# Altium schematic symbol library Richs Schematic Components.SchLib: 220 symbols (part 2 of 2)
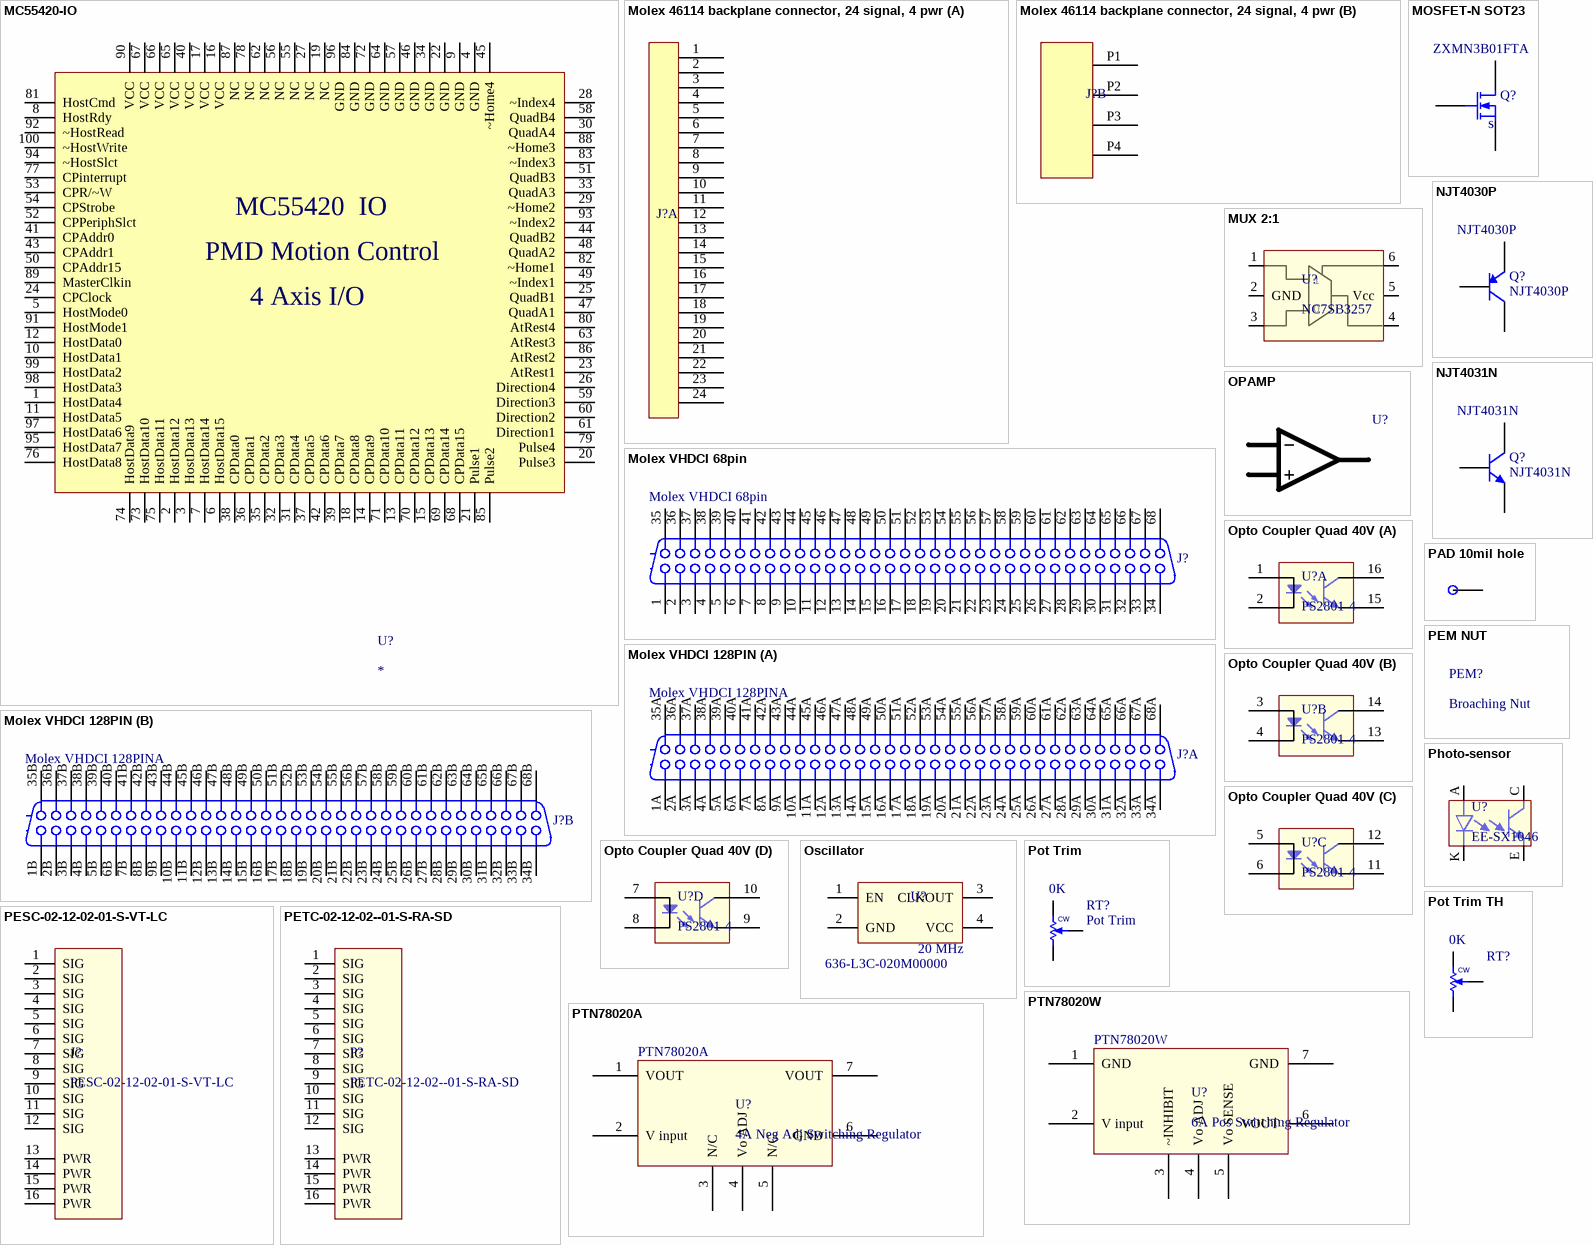
[diagram p13: symbols MC55420-IO to PTN78020W]

## PETC-02-12-02--01-S-RA-SD
designator P?
SAMTEC, SIGNAL(12)+PWR(4); Vendor Mult.: 1; Manufacturer: SAMTEC; Manuf p/n: PETC-02-12-02--01-S-RA-SD; Vendor: SAMTEC; Vendor p/n: PETC-02-12-02--01-S-RA-SD
footprint PETC-02-12-02-01-RA (Samtec Male Pins, PWR(4), Signal(12), Right Angle)
pins: 1 SIG, 2 SIG, 3 SIG, 4 SIG, 5 SIG, 6 SIG, 7 SIG, 8 SIG, 9 SIG, 10 SIG, 11 SIG, 12 SIG, 13 PWR, 14 PWR, 15 PWR, 16 PWR

## Photo-sensor
designator U?, comment EE-SX1046
Omron EE-SX1046; LCO p/n: 135-00001
footprint Photo-sensor (Omron EE-SX1046)
pins: A anode, C collector , E emitter, K cathode

## Pot Trim
designator RT?  value 0K
SMD Pot Bourns 3214W
footprint POT Bournes 3214W (SMD Trim Pot)
pins: CCW -, CW +, W
1 alternate drawing of the same symbol

## Pot Trim TH
designator RT?  value 0K  (hidden comment: Pot Trim TH)
TH Pot Bourns 3266W; Manuf p/n: 3266W-1-___LF; Vendor: DigiKey; Vendor p/n: 3266W-___LF-ND; Vendor Mult.: 1; Manufacturer: BOURNS; COST: 3.58
footprint POT, BOURNS 3266W
pins: 1 CCW, 2 W, 3 CW
1 alternate drawing of the same symbol

## PTN78020A
designator U?, comment 4A Neg Adj Switching Regulator  value PTN78020A
Neg Adj Switching Regulator
footprint TEXAS Inst Switching Regulator (Texas Instruments Integrated switching regulator)
pins: 1 VOUT, 2 V input, 3 N/C, 4 Vo ADJ, 5 N/C, 6 GND, 7 VOUT

## PTN78020W
designator U?, comment 6A Pos Switching Regulator  value PTN78020W
Pos Adj Switching Regulator
footprint TEXAS Inst Switching Regulator (Texas Instruments Integrated switching regulator)
pins: 1 GND, 2 V input, 3 ~INHIBIT, 4 Vo ADJ, 5 Vo SENSE, 6 VOUT, 7 GND

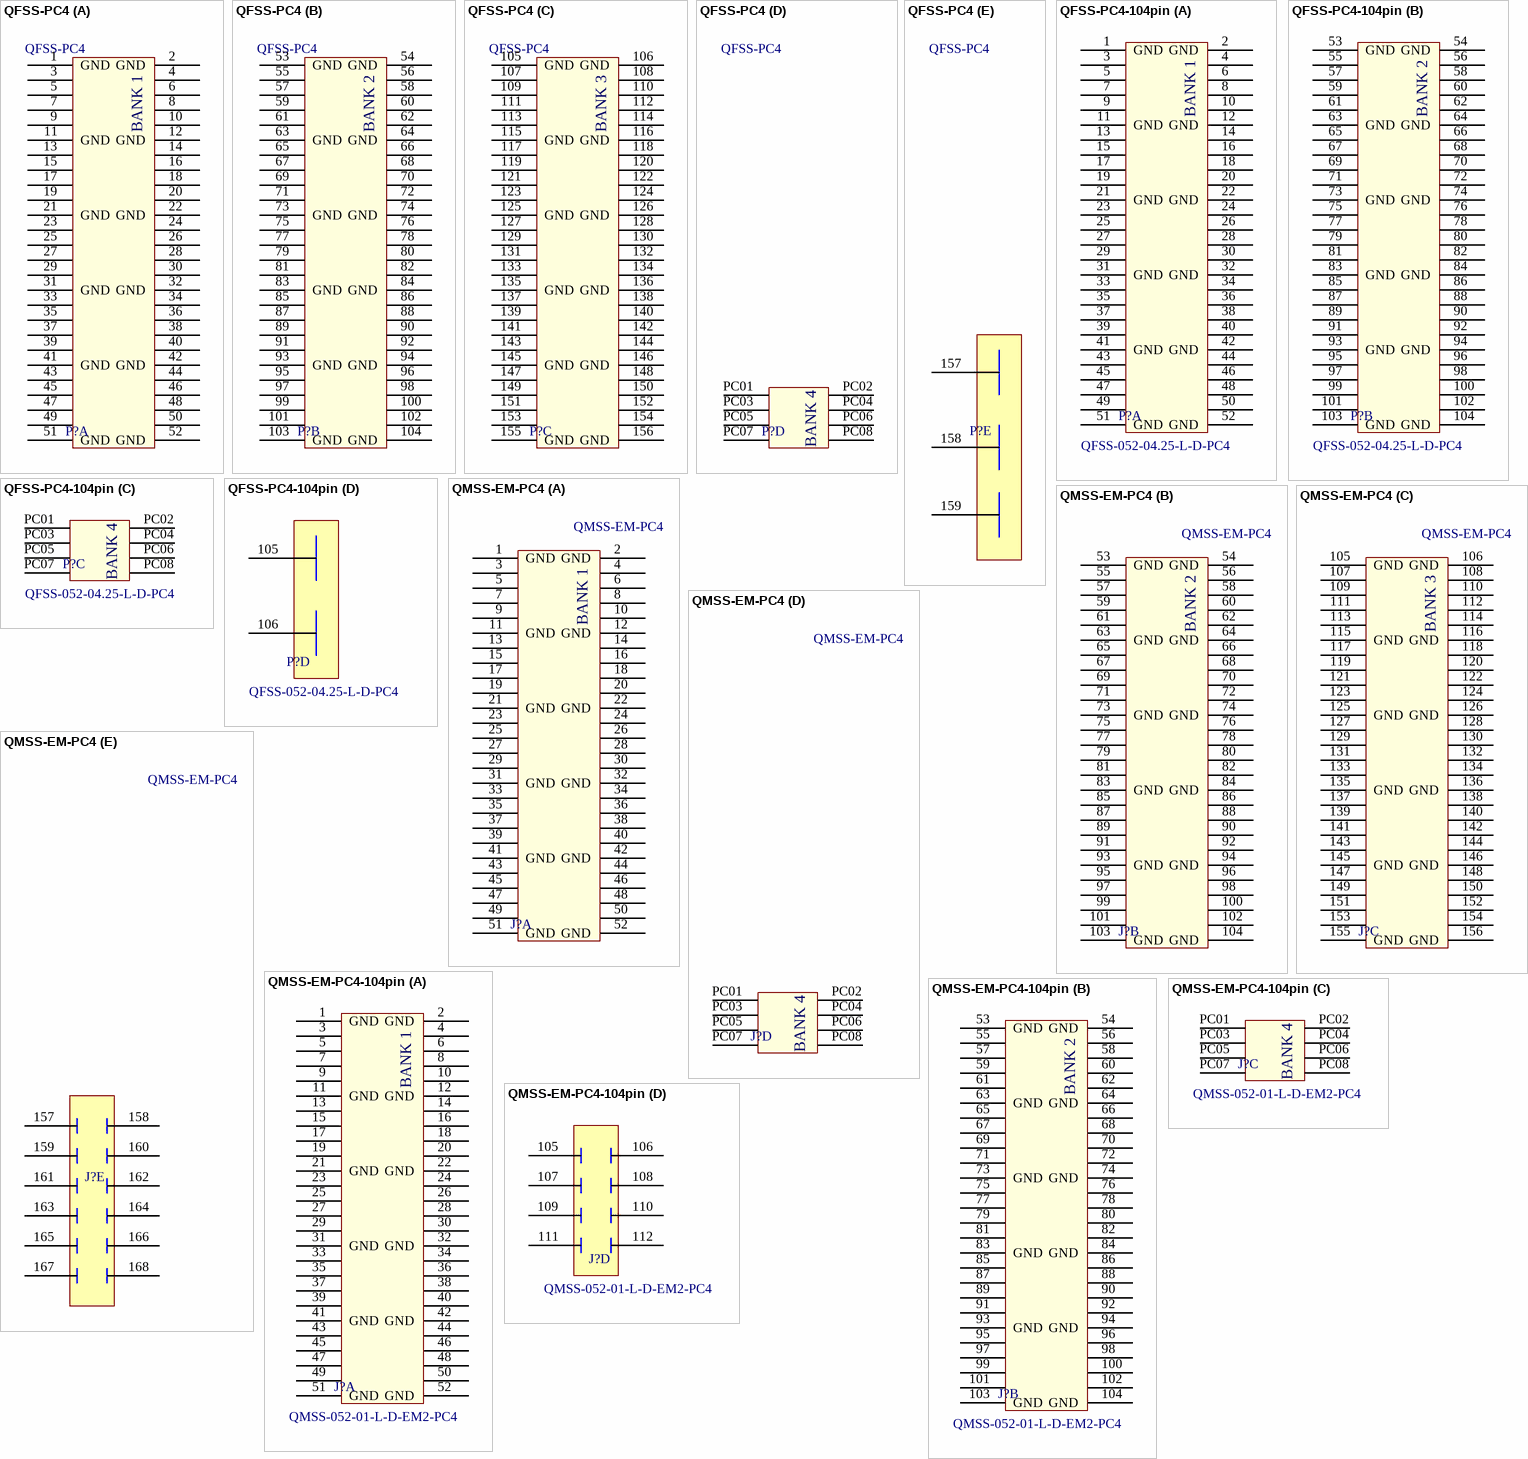
[diagram p7: symbols QFSS-PC4 to QMSS-EM-PC4-104pin]

## QFSS-PC4
designator P?
SAMTEC QFSS W/PWR PINS; Manuf p/n: QFSS-078-04.25-L-D-PC4; Vendor Mult.: 1; Manufacturer: SAMTEC; Vendor: SAMTEC; Vendor p/n: QFSS-078-04.25-L-D-PC4; COST: 17.42; VALUE: QFSS-PC4
footprint QFS SMD PWR PINS (78 pos (156 pin) + 8 pwr pins)
part A pins: 1 GND, 2 GND, 3, 4, 5, 6, 7, 8, 9, 10, 11 GND, 12 GND, 13, 14, 15, 16, 17, 18, 19, 20, 21 GND, 22 GND, 23, 24, 25, 26, 27, 28, 29, 30, 31 GND, 32 GND, 33, 34, 35, 36, 37, 38, 39, 40, 41 GND, 42 GND, 43, 44, 45, 46, 47, 48, 49, 50, 51 GND, 52 GND
part B pins: 53 GND, 54 GND, 55, 56, 57, 58, 59, 60, 61, 62, 63 GND, 64 GND, 65, 66, 67, 68, 69, 70, 71, 72, 73 GND, 74 GND, 75, 76, 77, 78, 79, 80, 81, 82, 83 GND, 84 GND, 85, 86, 87, 88, 89, 90, 91, 92, 93 GND, 94 GND, 95, 96, 97, 98, 99, 100, 101, 102, 103 GND, 104 GND
part C pins: 105 GND, 106 GND, 107, 108, 109, 110, 111, 112, 113, 114, 115 GND, 116 GND, 117, 118, 119, 120, 121, 122, 123, 124, 125 GND, 126 GND, 127, 128, 129, 130, 131, 132, 133, 134, 135 GND, 136 GND, 137, 138, 139, 140, 141, 142, 143, 144, 145 GND, 146 GND, 147, 148, 149, 150, 151, 152, 153, 154, 155 GND, 156 GND
part D pins: PC01, PC02, PC03, PC04, PC05, PC06, PC07, PC08
part E pins: 157 GND, 158 GND, 159 GND
part A text: BANK 1
part B text: BANK 2
part C text: BANK 3
part D text: BANK 4

## QFSS-PC4-104pin
designator P?  value QFSS-052-04.25-L-D-PC4  (hidden comment: QFSS-PC4-104pin)
SAMTEC QFSS W/PWR PINS; Vendor Mult.: 1; Manufacturer: SAMTEC; Manuf p/n: QFSS-052-04.25-L-D-PC4; Vendor: SAMTEC; Vendor p/n: QFSS-052-04.25-L-D-PC4; COST: 17.42
footprint QFS SMD PWR PINS - 104 pins (52 pos (104pin) + 8 pwr pins)
part A pins: 1 GND, 2 GND, 3, 4, 5, 6, 7, 8, 9, 10, 11 GND, 12 GND, 13, 14, 15, 16, 17, 18, 19, 20, 21 GND, 22 GND, 23, 24, 25, 26, 27, 28, 29, 30, 31 GND, 32 GND, 33, 34, 35, 36, 37, 38, 39, 40, 41 GND, 42 GND, 43, 44, 45, 46, 47, 48, 49, 50, 51 GND, 52 GND
part B pins: 53 GND, 54 GND, 55, 56, 57, 58, 59, 60, 61, 62, 63 GND, 64 GND, 65, 66, 67, 68, 69, 70, 71, 72, 73 GND, 74 GND, 75, 76, 77, 78, 79, 80, 81, 82, 83 GND, 84 GND, 85, 86, 87, 88, 89, 90, 91, 92, 93 GND, 94 GND, 95, 96, 97, 98, 99, 100, 101, 102, 103 GND, 104 GND
part C pins: PC01, PC02, PC03, PC04, PC05, PC06, PC07, PC08
part D pins: 105 GND, 106 GND
part A text: BANK 1
part B text: BANK 2
part C text: BANK 4

## QMSS-EM-PC4
designator J?
SAMTEC QMSS EDGE W/PWR PINS; Manuf p/n: QMSS-078-01-L-D-EM2-PC4; Vendor: SAMETC; Vendor Mult.: 1; LCO p/n: 125-00023; Manufacturer: SAMTEC; Vendor p/n: QMSS-078-01-L-D-EM2-PC4; COST: 20.00; VALUE: QMSS-EM-PC4
footprint QMS EDGE PWR PINS (78 pos (156 pin) + 8 pwr pins)
part A pins: 1 GND, 2 GND, 3, 4, 5, 6, 7, 8, 9, 10, 11 GND, 12 GND, 13, 14, 15, 16, 17, 18, 19, 20, 21 GND, 22 GND, 23, 24, 25, 26, 27, 28, 29, 30, 31 GND, 32 GND, 33, 34, 35, 36, 37, 38, 39, 40, 41 GND, 42 GND, 43, 44, 45, 46, 47, 48, 49, 50, 51 GND, 52 GND
part B pins: 53 GND, 54 GND, 55, 56, 57, 58, 59, 60, 61, 62, 63 GND, 64 GND, 65, 66, 67, 68, 69, 70, 71, 72, 73 GND, 74 GND, 75, 76, 77, 78, 79, 80, 81, 82, 83 GND, 84 GND, 85, 86, 87, 88, 89, 90, 91, 92, 93 GND, 94 GND, 95, 96, 97, 98, 99, 100, 101, 102, 103 GND, 104 GND
part C pins: 105 GND, 106 GND, 107, 108, 109, 110, 111, 112, 113, 114, 115 GND, 116 GND, 117, 118, 119, 120, 121, 122, 123, 124, 125 GND, 126 GND, 127, 128, 129, 130, 131, 132, 133, 134, 135 GND, 136 GND, 137, 138, 139, 140, 141, 142, 143, 144, 145 GND, 146 GND, 147, 148, 149, 150, 151, 152, 153, 154, 155 GND, 156 GND
part D pins: PC01, PC02, PC03, PC04, PC05, PC06, PC07, PC08
part E pins: 157 GND, 158 GND, 159 GND, 160 GND, 161 GND, 162 GND, 163 GND, 164 GND, 165 GND, 166 GND, 167 GND, 168 GND
part A text: BANK 1
part B text: BANK 2
part C text: BANK 3
part D text: BANK 4

## QMSS-EM-PC4-104pin
designator J?  value QMSS-052-01-L-D-EM2-PC4  (hidden comment: QMSS-EM-PC4-104pin)
SAMTEC QMSS EDGE W/PWR PINS; Vendor: SAMETC; Vendor Mult.: 1; LCO p/n: 125-00023; Manufacturer: SAMTEC; Manuf p/n: QMSS-052-01-L-D-EM2-PC4; Vendor p/n: QMSS-052-01-L-D-EM2-PC4; COST: 20.00
footprint QMS EDGE PWR PINS - 104 pin (52 pos (104 pin) + 8 pwr pins)
part A pins: 1 GND, 2 GND, 3, 4, 5, 6, 7, 8, 9, 10, 11 GND, 12 GND, 13, 14, 15, 16, 17, 18, 19, 20, 21 GND, 22 GND, 23, 24, 25, 26, 27, 28, 29, 30, 31 GND, 32 GND, 33, 34, 35, 36, 37, 38, 39, 40, 41 GND, 42 GND, 43, 44, 45, 46, 47, 48, 49, 50, 51 GND, 52 GND
part B pins: 53 GND, 54 GND, 55, 56, 57, 58, 59, 60, 61, 62, 63 GND, 64 GND, 65, 66, 67, 68, 69, 70, 71, 72, 73 GND, 74 GND, 75, 76, 77, 78, 79, 80, 81, 82, 83 GND, 84 GND, 85, 86, 87, 88, 89, 90, 91, 92, 93 GND, 94 GND, 95, 96, 97, 98, 99, 100, 101, 102, 103 GND, 104 GND
part C pins: PC01, PC02, PC03, PC04, PC05, PC06, PC07, PC08
part D pins: 105 GND, 106 GND, 107 GND, 108 GND, 109 GND, 110 GND, 111 GND, 112 GND
part A text: BANK 1
part B text: BANK 2
part C text: BANK 4

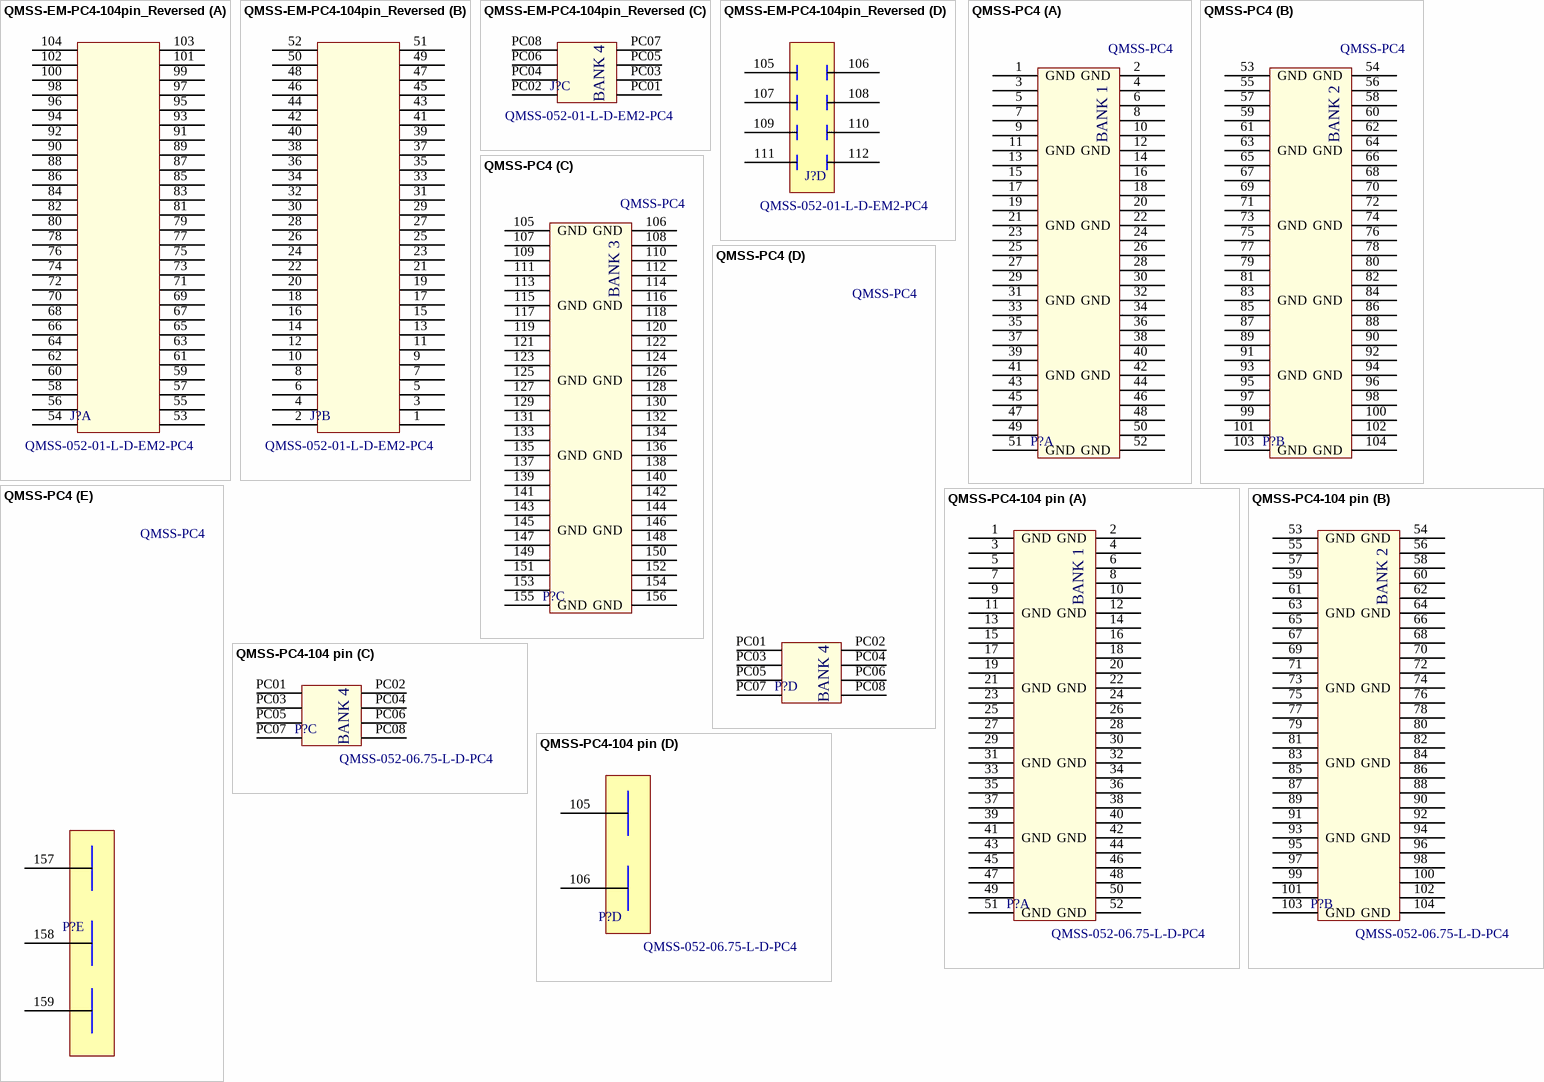
[diagram p8: symbols QMSS-EM-PC4-104pin_Reversed to QMSS-PC4-104 pin]

## QMSS-EM-PC4-104pin_Reversed
designator J?  value QMSS-052-01-L-D-EM2-PC4  (hidden comment: QMSS-EM-PC4-104pin_Reversed)
SAMTEC QMSS EDGE W/PWR PINS; Vendor: SAMETC; Vendor Mult.: 1; LCO p/n: 125-00023; Manufacturer: SAMTEC; Manuf p/n: QMSS-052-01-L-D-EM2-PC4; Vendor p/n: QMSS-052-01-L-D-EM2-PC4; COST: 20.00
footprint QMS EDGE PWR PINS - 104 pin (52 pos (104 pin) + 8 pwr pins)
part A pins: 53, 54, 55, 56 55, 57 56, 58 56, 59 57, 60 57, 61 58, 62 58, 63 59, 64 59, 65 60, 66 60, 67 61, 68 61, 69 62, 70 62, 71 63, 72 63, 73 64, 74 64, 75 65, 76 65, 77 66, 78 66, 79 67, 80 67, 81 68, 82 68, 83 69, 84 69, 85 70, 86 70, 87 71, 88 71, 89 72, 90 72, 91 73, 92 73, 93 74, 94 74, 95 75, 96 75, 97 76, 98 76, 99 77, 100 77, 101 78, 102 78, 103 79, 104 79
part B pins: 1, 2, 3, 4, 5 4, 6 5, 7 5, 8 6, 9 6, 10 7, 11 7, 12 8, 13 8, 14 9, 15 9, 16 10, 17 10, 18 11, 19 11, 20 12, 21 12, 22 13, 23 13, 24 14, 25 14, 26 15, 27 15, 28 16, 29 16, 30 17, 31 17, 32 18, 33 18, 34 19, 35 19, 36 20, 37 20, 38 21, 39 21, 40 22, 41 22, 42 23, 43 23, 44 24, 45 24, 46 25, 47 25, 48 26, 49 26, 50 27, 51 27, 52 28
part C pins: PC01, PC02, PC03, PC04, PC05, PC06, PC07, PC08
part D pins: 105 GND, 106 GND, 107 GND, 108 GND, 109 GND, 110 GND, 111 GND, 112 GND
part C text: BANK 4

## QMSS-PC4
designator P?
SAMTEC QMSS W/PWR PINS; Manuf p/n: QMSS-078-06.75-L-D-PC4; Vendor Mult.: 1; LCO p/n: 125-00032; Manufacturer: SAMTEC; Vendor: SAMTEC; Vendor p/n: QMSS-078-06.75-L-D-PC4; COST: 18.33; VALUE: QMSS-PC4
footprint QMS SMD PWR PINS (78 pos (156 pin) + 8 pwr pins)
part A pins: 1 GND, 2 GND, 3, 4, 5, 6, 7, 8, 9, 10, 11 GND, 12 GND, 13, 14, 15, 16, 17, 18, 19, 20, 21 GND, 22 GND, 23, 24, 25, 26, 27, 28, 29, 30, 31 GND, 32 GND, 33, 34, 35, 36, 37, 38, 39, 40, 41 GND, 42 GND, 43, 44, 45, 46, 47, 48, 49, 50, 51 GND, 52 GND
part B pins: 53 GND, 54 GND, 55, 56, 57, 58, 59, 60, 61, 62, 63 GND, 64 GND, 65, 66, 67, 68, 69, 70, 71, 72, 73 GND, 74 GND, 75, 76, 77, 78, 79, 80, 81, 82, 83 GND, 84 GND, 85, 86, 87, 88, 89, 90, 91, 92, 93 GND, 94 GND, 95, 96, 97, 98, 99, 100, 101, 102, 103 GND, 104 GND
part C pins: 105 GND, 106 GND, 107, 108, 109, 110, 111, 112, 113, 114, 115 GND, 116 GND, 117, 118, 119, 120, 121, 122, 123, 124, 125 GND, 126 GND, 127, 128, 129, 130, 131, 132, 133, 134, 135 GND, 136 GND, 137, 138, 139, 140, 141, 142, 143, 144, 145 GND, 146 GND, 147, 148, 149, 150, 151, 152, 153, 154, 155 GND, 156 GND
part D pins: PC01, PC02, PC03, PC04, PC05, PC06, PC07, PC08
part E pins: 157 GND, 158 GND, 159 GND
part A text: BANK 1
part B text: BANK 2
part C text: BANK 3
part D text: BANK 4

## QMSS-PC4-104 pin
designator P?, comment QMSS-052-06.75-L-D-PC4
SAMTEC QMSS W/PWR PINS; Vendor Mult.: 1; LCO p/n: xxxxxxx; Manufacturer: SAMTEC; Manuf p/n: QMSS-052-06.75-L-D-PC4; Vendor: SAMTEC; Vendor p/n: QMSS-052-06.75-L-D-PC4; COST: 18.33; VALUE: QMSS-052-06.75-L-D-PC4
footprint QMS SMD PWR PINS - 104PIN (52pos (104 pin) + 8 pwr pins)
part A pins: 1 GND, 2 GND, 3, 4, 5, 6, 7, 8, 9, 10, 11 GND, 12 GND, 13, 14, 15, 16, 17, 18, 19, 20, 21 GND, 22 GND, 23, 24, 25, 26, 27, 28, 29, 30, 31 GND, 32 GND, 33, 34, 35, 36, 37, 38, 39, 40, 41 GND, 42 GND, 43, 44, 45, 46, 47, 48, 49, 50, 51 GND, 52 GND
part B pins: 53 GND, 54 GND, 55, 56, 57, 58, 59, 60, 61, 62, 63 GND, 64 GND, 65, 66, 67, 68, 69, 70, 71, 72, 73 GND, 74 GND, 75, 76, 77, 78, 79, 80, 81, 82, 83 GND, 84 GND, 85, 86, 87, 88, 89, 90, 91, 92, 93 GND, 94 GND, 95, 96, 97, 98, 99, 100, 101, 102, 103 GND, 104 GND
part C pins: PC01, PC02, PC03, PC04, PC05, PC06, PC07, PC08
part D pins: 105 GND, 106 GND
part A text: BANK 1
part B text: BANK 2
part C text: BANK 4

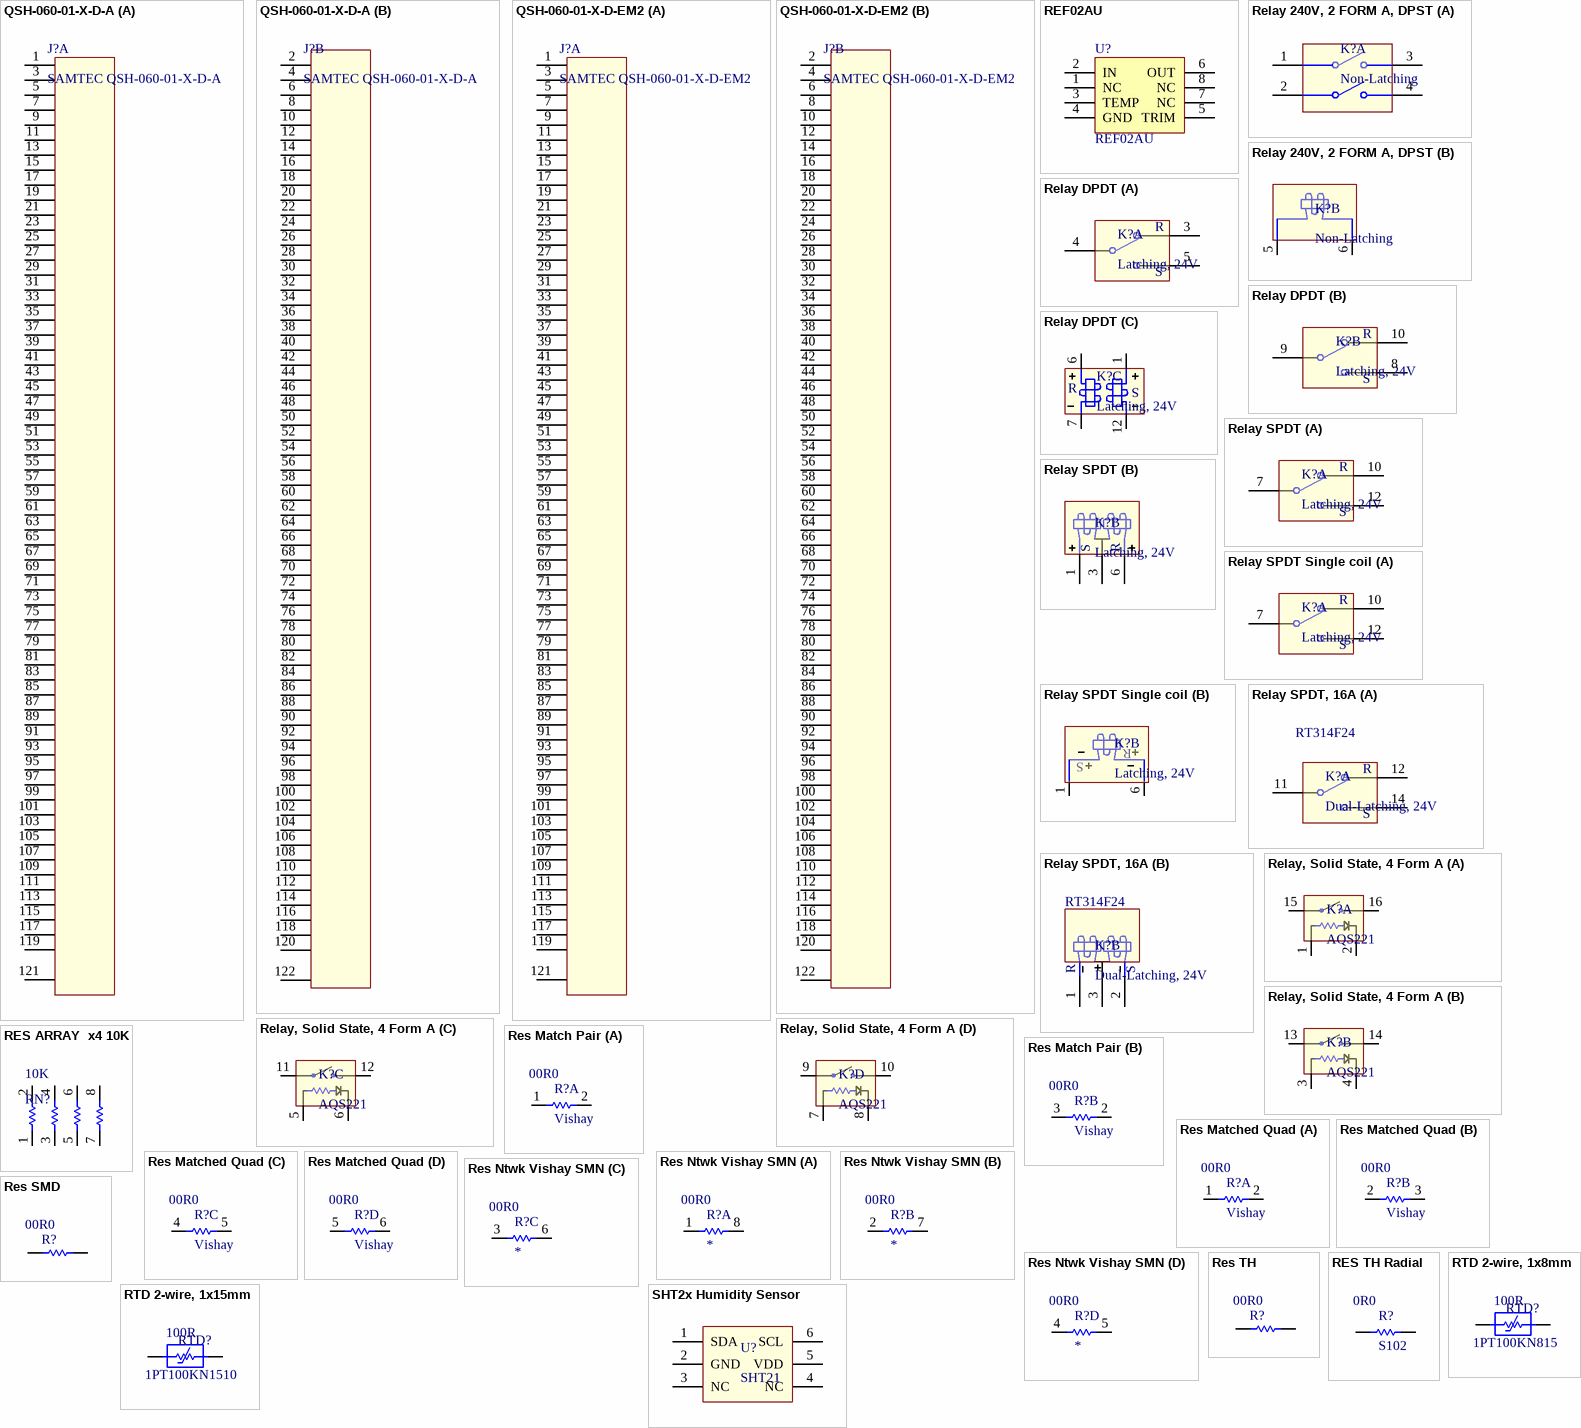
[diagram p9: symbols QSH-060-01-X-D-A to SHT2x Humidity Sensor]

## QSH-060-01-X-D-A
designator J?, comment SAMTEC QSH-060-01-X-D-A
LCO p/n: 125-00125; Manufacturer: SAMTEC; Manuf p/n: QSH-060-01-X-D-A; VALUE: QSH-060-01-X-D-A; Vendor: SAMTEC
footprint QSH-060-010-X-D-A (Samtec QSH (on SF Module))
part A pins: 1 GND, 3, 5, 7, 9, 11, 13, 15, 17, 19, 21, 23, 25, 27, 29, 31, 33, 35, 37, 39, 41, 43, 45, 47, 49, 51, 53, 55, 57, 59, 61, 63, 65, 67, 69, 71, 73, 75, 77, 79, 81, 83, 85, 87, 89, 91, 93, 95, 97, 99, 101, 103, 105, 107, 109, 111, 113, 115, 117, 119, 121
part B pins: 2, 4, 6, 8, 10, 12, 14, 16, 18, 20, 22, 24, 26, 28, 30, 32, 34, 36, 38, 40, 42, 44, 46, 48, 50, 52, 54, 56, 58, 60, 62, 64, 66, 68, 70, 72, 74, 76, 78, 80, 82, 84, 86, 88, 90, 92, 94, 96, 98, 100, 102, 104, 106, 108, 110, 112, 114, 116, 118, 120, 122

## QSH-060-01-X-D-EM2
designator J?, comment SAMTEC QSH-060-01-X-D-EM2
Manuf p/n: QSH-060-01-L-D-EM2; LCO p/n: 125-00302; VALUE: QSH-060-01-X-D-A; Manufacturer: SAMTEC; Vendor: SAMTEC
footprint QSH-060-01-L-D-EM2_rev2 (SAMTEC QSH EDGE CONNECTOR)
part A pins: 1 GND, 3, 5, 7, 9, 11, 13, 15, 17, 19, 21, 23, 25, 27, 29, 31, 33, 35, 37, 39, 41, 43, 45, 47, 49, 51, 53, 55, 57, 59, 61, 63, 65, 67, 69, 71, 73, 75, 77, 79, 81, 83, 85, 87, 89, 91, 93, 95, 97, 99, 101, 103, 105, 107, 109, 111, 113, 115, 117, 119, 121
part B pins: 2, 4, 6, 8, 10, 12, 14, 16, 18, 20, 22, 24, 26, 28, 30, 32, 34, 36, 38, 40, 42, 44, 46, 48, 50, 52, 54, 56, 58, 60, 62, 64, 66, 68, 70, 72, 74, 76, 78, 80, 82, 84, 86, 88, 90, 92, 94, 96, 98, 100, 102, 104, 106, 108, 110, 112, 114, 116, 118, 120, 122

## REF02AU
designator U?
+5V Precision Voltage Reference; Manufacturer: AnalogDevices; Manuf p/n: REF02CSA+; Value: REF02CSA; Vendor: MAXIM; Vendor p/n: REF02CSA+-ND; Vendor Mult.: 1; LCO p/n: 150-00038; COST: 2.65
footprint 182H_N (SOIC, 8-Leads, Body 4.9x3.9mm, Pitch 1.27mm, IPC Medium Density)
footprint 182H_L (SOIC, 8-Leads, Body 4.9x3.9mm, Pitch 1.27mm, IPC High Density)
footprint 182H_M (SOIC, 8-Leads, Body 4.9x3.9mm, Pitch 1.27mm, IPC Low Density)
3D model SOIC8 (8-Pin Small Outline Integrated Circuit 1.27 mm Pitch)
pins: 1 NC, 2 IN (power), 3 TEMP, 4 GND (power), 5 TRIM, 6 OUT (power), 7 NC, 8 NC

## Relay 240V, 2 FORM A, DPST
designator K?, comment Non-Latching
Omron G4W DPST Non-Latching; Manuf p/n: G4W-2212P-US-TV5-HP-DC24; Vendor: DK; Vendor p/n: Z2245-ND; LCO p/n: 183-00004; Manufacturer: OMRON
footprint RELAY OMRON G4W-2212P (OMRON AC SWITCHING RELAY)
part A pins: 1, 2, 3, 4
part B pins: 5, 6 Reset

## Relay DPDT
designator K?, comment Latching, 24V
Omron G6SK DPDT Dual Latching
footprint Relay Omron G6SK (DPDT Dual Coil Latch)
part A pins: 3 R, 4 Wiper, 5 Set
part B pins: 8 Set, 9 Wiper, 10 R
part C pins: 1 S+, 6 R+, 7 R-, 12 S-
part A text: S
part B text: S
part C text: S

## Relay SPDT
designator K?, comment Latching, 24V
Omron G6E SPDT Dual Latching
footprint Relay Omron G6EK (SPDT Latching)
part A pins: 7 Wiper, 10 R, 12 Set
part B pins: 1 Set, 3 Com, 6 Reset
part A text: S
part B text: S

## Relay SPDT Single coil
designator K?, comment Latching, 24V
Omron G6E SPDT Single Coil Latching
footprint Relay Omron G6EU (SPDT Single Coil Latch)
part A pins: 7 Wiper, 10 R, 12 Set
part B pins: 1 Set, 6 Reset
part A text: S
part B text: S

## Relay SPDT, 16A
designator K?, comment Dual-Latching, 24V  value RT314F24
Tyco/Schrack RT314F24, Dual Latching; Vendor: DigiKey; Vendor Mult.: 1; Vendor p/n: PB1086-ND; LCO p/n: 183-00001; COST: 3.79; Manufacturer: Tyco/Schrack; Manuf p/n: RT314F24
footprint RELAY, TYCO RT1 (TYCO/SCHRACK RT314F24)
part A pins: 11 Wiper, 12 R, 14 S
part B pins: 1 Reset, 2 Reset, 3 Com

## Relay, Solid State, 4 Form A
designator K?, comment AQS221
Panasonic AQS221; Manuf p/n: AQS221FR2S; LCO p/n: 183-00002; Manufacturer: Panasonic
footprint SO-16 (Small Outline; 16 Leads; Body Width 5.6 mm; Pitch 1.27 mm)
part A pins: 1 +, 2 +, 15, 16
part B pins: 3 +, 4 +, 13, 14
part C pins: 5 +, 6 +, 11, 12
part D pins: 7 +, 8 +, 9, 10

## RES ARRAY  x4 10K
designator RN?  value 10K
Resistor Array 4 Isolated; Manufacturer: PANASONIC - ECG; Manuf p/n: EXB-38V103JV; Vendor: DIGIKEY; Vendor p/n: Y9103CT-ND; Vendor Mult.: 10; LCO p/n: 180-00043; COST: 0.03
footprint RES ARRAY 0603 x 4
pins: 1, 2, 3, 4, 5, 6, 7 1, 8

## Res Match Pair
designator R?, comment Vishay  value 00R0
TCR matched; Manuf p/n: 300144 series; Vendor Mult.: 1; Manufacturer: Vishay; COST: 24.12
footprint Vishay 3 pin (Matched pair)
part A pins: 1, 2
part B pins: 2, 3

## Res Matched Quad
designator R?, comment Vishay  value 00R0
TCR matched; Manuf p/n: 300145 Series; Vendor Mult.: 1; Manufacturer: Vishay; COST: 42.47
footprint VISHAY 6 pin
part A pins: 1, 2
part B pins: 2, 3
part C pins: 4, 5
part D pins: 5, 6

## Res Ntwk Vishay SMN
designator R?  value 00R0
footprint 182H_M (8-Pin Small Outline Integrated Circuit 1.27 mm Pitch, IPC Low Density)
part A pins: 1 0, 8 0
part B pins: 2, 7 0
part C pins: 3 0, 6 0
part D pins: 4 0, 5 0

## Res SMD
designator R?, comment value 00R0  (hidden comment: Res 0805)
Resistor 0805; Manufacturer: Vishay/Dale; Manuf p/n: CRCW080500R0FKEA; Vendor: DIGIKEY; Vendor p/n: 541-00R0CCT-ND; Vendor Mult.: 10; COST: 0.09
footprint smd_0805
pins: 1, 2

## Res TH
designator R?  value 00R0  (hidden comment: Res TH)
Resistor
footprint AXIAL-0.4 (Resistor; 2 Leads)
pins: 1, 2

## RES TH Radial
designator R?, comment S102  value 0R0
Vishay Foil Resistor; LCO p/n: xxxxxxxxxxxxxxxxxxxxx
footprint Vishay S102 series (Matched pair)
pins: 1, 2

## RTD 2-wire, 1x8mm
designator RTD?  value 100R  Manuf p/n: 1PT100KN815  (hidden comment: RTD 2-wire, 1x8mm)
Pt RTD; Manufacturer: OMEGA; Vendor Mult.: 1; COST: 16; Vendor: OMEGA; Vendor p/n: 1PT100KN815
footprint RTD 1x8mm (RTD)
pins: 1, 2

## RTD 2-wire, 1x15mm
designator RTD?  value 100R  Manuf p/n: 1PT100KN1510  (hidden comment: RTD 2-wire, 1x15mm)
Pt RTD; Manufacturer: OMEGA; Vendor Mult.: 1; COST: 13.00; Vendor: OMEGA; Vendor p/n: 1PT100KN1510
footprint RTD 1x15mm (RTD)
pins: 1, 2

## SHT2x Humidity Sensor
designator U?, comment SHT21
footprint DD6/DFN6 (SON, 6-Leads, Body 3x3 mm, Pitch 1mm, IPC High Density)
pins: 1 SDA, 2 GND, 3 NC, 4 NC, 5 VDD, 6 SCL

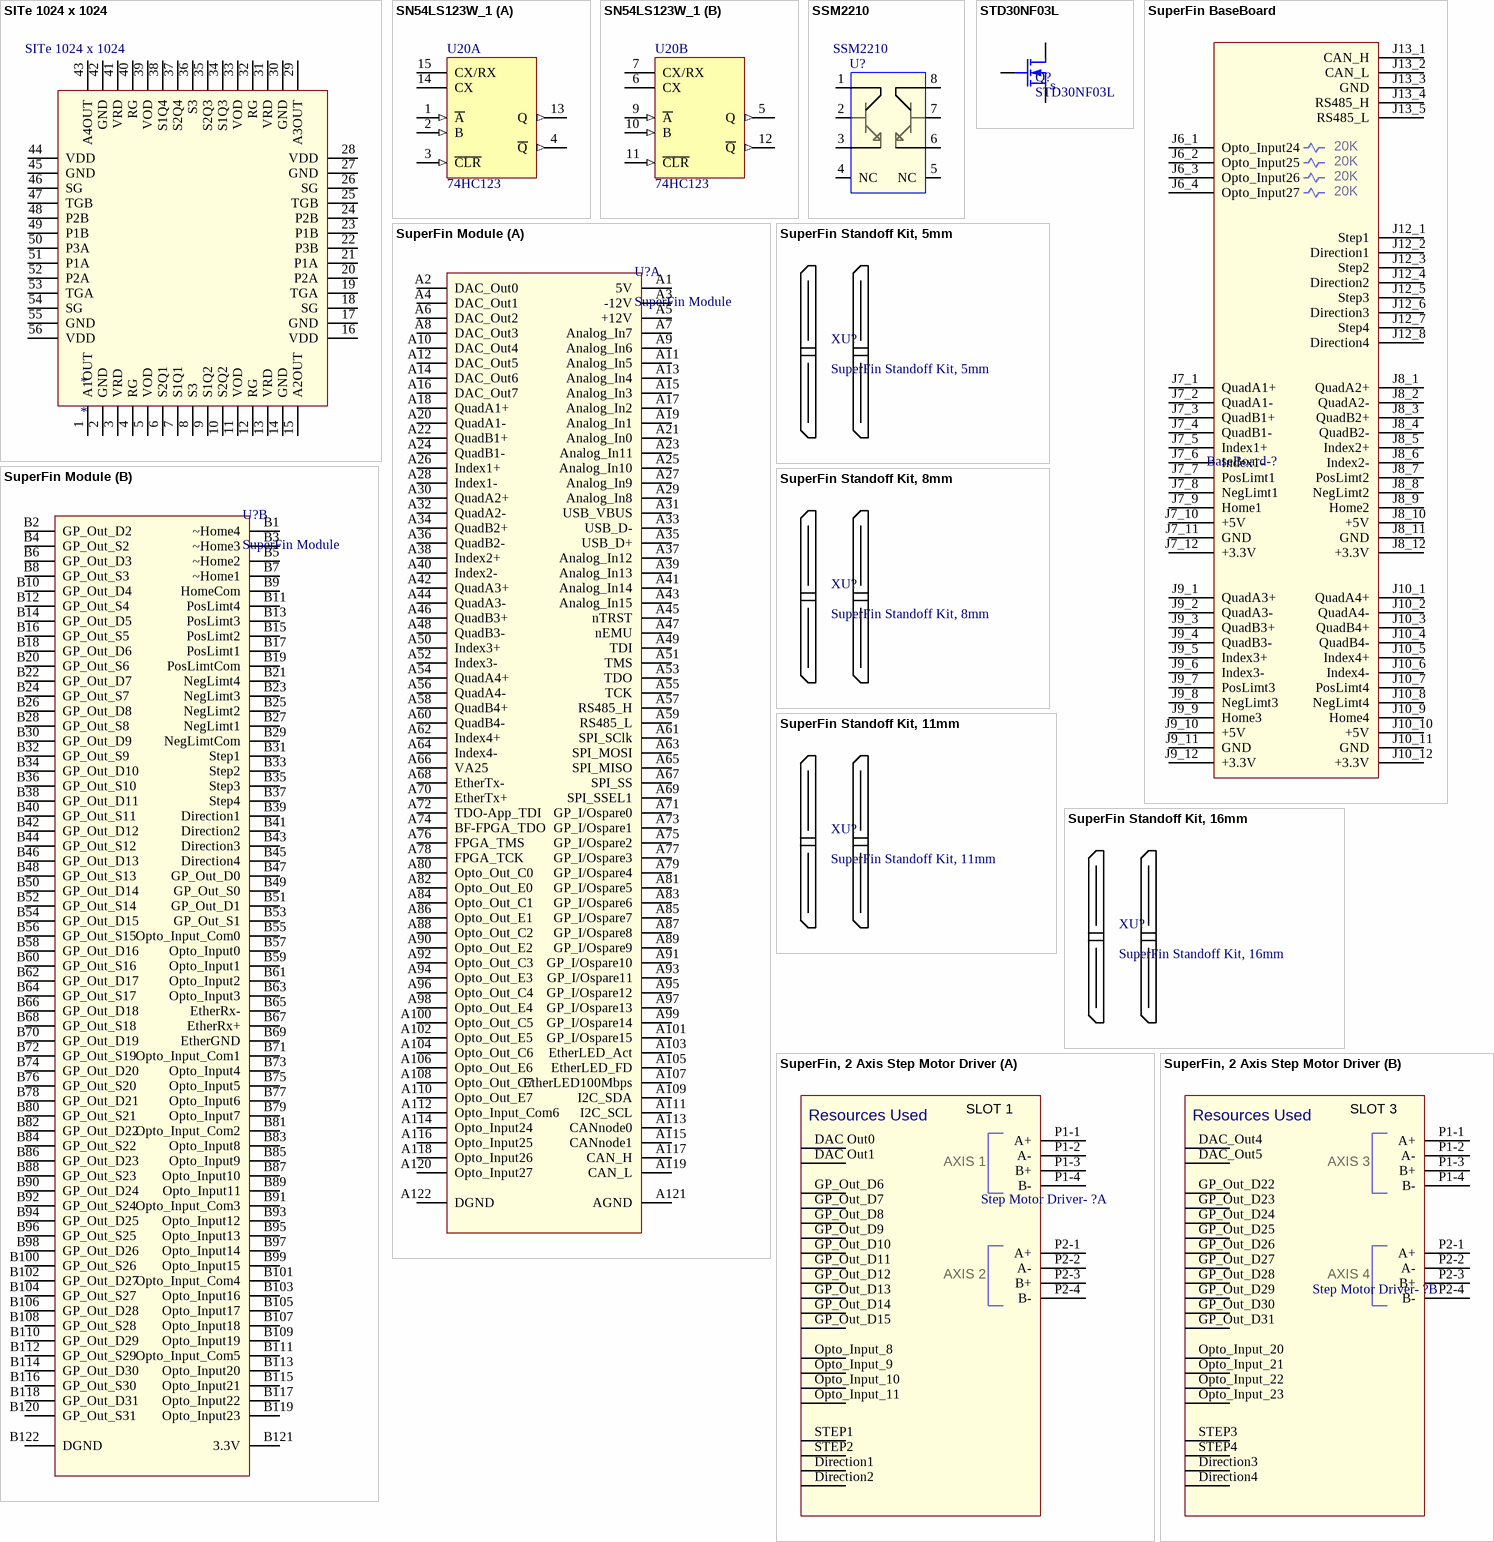
[diagram p10: symbols SITe 1024 x 1024 to SuperFin, 2 Axis Step Motor Driver]

## SITe 1024 x 1024
designator *  value SITe 1024 x 1024
footprint SITe 1024 x 1024 (SITe CCD)
pins: 1 A1OUT, 2 GND, 3 VRD, 4 RG, 5 VOD, 6 S2Q1, 7 S1Q1, 8 S3, 9 S1Q2, 10 S2Q2, 11 VOD, 12 RG, 13 VRD, 14 GND, 15 A2OUT, 16 VDD, 17 GND, 18 SG, 19 TGA, 20 P2A, 21 P1A, 22 P3B, 23 P1B, 24 P2B, 25 TGB, 26 SG, 27 GND, 28 VDD, 29 A3OUT, 30 GND, 31 VRD, 32 RG, 33 VOD, 34 S1Q3, 35 S2Q3, 36 S3, 37 S2Q4, 38 S1Q4, 39 VOD, 40 RG, 41 VRD, 42 GND, 43 A4OUT, 44 VDD, 45 GND, 46 SG, 47 TGB, 48 P2B, 49 P1B, 50 P3A, 51 P1A, 52 P2A, 53 TGA, 54 SG, 55 GND, 56 VDD

## SN54LS123W_1
designator U20, comment 74HC123
Retriggerable Monostable Multivibrator; Manufacturer: STMicroelectronics; Manuf p/n: M74HC123TTR; Vendor: DIGIKEY; Vendor Mult.: 1; Vendor p/n: 497-7342-1-ND; LCO p/n: 150-00005; COST: 0.68; Value: 74HC123
footprint W016 (DFP; 16 Leads; Body 10.9 x 7.2 mm (LxW max); Pitch 1.27 mm)
3D model W016 (DFP; 16 Leads; Body 10.9 x 7.2 mm (LxW max); Pitch 1.27 mm)
signal-integrity model SN54LS123W
footprint SMD_TSSOP16_RU16
pins on every part: 8 GND (power) hidden to GND, 16 3.3V (power) hidden to VCC
part A pins: 1 ~{A} (in), 2 B (in), 3 ~{CLR} (in), 4 ~{Q} (out), 13 Q (out), 14 CX, 15 CX/RX
part B pins: 5 Q (out), 6 CX, 7 CX/RX, 9 ~{A} (in), 10 B (in), 11 ~{CLR} (in), 12 ~{Q} (out)

## SSM2210
designator U?
Dual Matched NPN; Manufacturer: ANALOG DEVICES; Manuf p/n: SSM2210SZ; Vendor: DIGIKEY; Vendor p/n: SSM2210SZ-ND; Vendor Mult.: 1; LCO p/n: 150-00062; COST: 5.40; VALUE: SSM2210
footprint SO-8_M (8-Pin Small Outline Integrated Circuit 1.27 mm Pitch, IPC Low Density)
pins: 1 C1, 2 B1, 3 E1, 4 NC, 5 NC, 6 E2, 7 B2, 8 C2

## STD30NF03L
designator Q?
N-Chan MOSFET; Manufacturer: ST MICRO; LCO p/n: XXXXXXXXXX; Vendor: Digi-Key; Vendor Mult.: 1; VALUE: STD30NF03L
footprint TO-252(D-PAK)  PowerPAD (D-PAK, 3-Pads, Body 6.2x6.7mm (max), IPC Medium Density)
pins: 1 G, 2 D, 3 S
text: s

## SuperFin BaseBoard
designator BaseBoard-?  (value not drawn)
pins: J6_1 Opto_Input24, J6_2 Opto_Input25, J6_3 Opto_Input26, J6_4 Opto_Input27, J7_1 QuadA1+, J7_2 QuadA1-, J7_3 QuadB1+, J7_4 QuadB1-, J7_5 Index1+, J7_6 Index1-, J7_7 PosLimt1, J7_8 NegLimt1, J7_9 Home1, J7_10 +5V, J7_11 GND, J7_12 +3.3V, J8_1 QuadA2+, J8_2 QuadA2-, J8_3 QuadB2+, J8_4 QuadB2-, J8_5 Index2+, J8_6 Index2-, J8_7 PosLimt2, J8_8 NegLimt2, J8_9 Home2, J8_10 +5V, J8_11 GND, J8_12 +3.3V, J9_1 QuadA3+, J9_2 QuadA3-, J9_3 QuadB3+, J9_4 QuadB3-, J9_5 Index3+, J9_6 Index3-, J9_7 PosLimt3, J9_8 NegLimt3, J9_9 Home3, J9_10 +5V, J9_11 GND, J9_12 +3.3V, J10_1 QuadA4+, J10_2 QuadA4-, J10_3 QuadB4+, J10_4 QuadB4-, J10_5 Index4+, J10_6 Index4-, J10_7 PosLimt4, J10_8 NegLimt4, J10_9 Home4, J10_10 +5V, J10_11 GND, J10_12 +3.3V, J12_1 Step1, J12_2 Direction1, J12_3 Step2, J12_4 Direction2, J12_5 Step3, J12_6 Direction3, J12_7 Step4, J12_8 Direction4, J13_1 CAN_H, J13_2 CAN_L, J13_3 GND, J13_4 RS485_H, J13_5 RS485_L
text: 20K

## SuperFin Module
designator U?
LCO p/n: 830-00010
footprint SuperFin Footprint (SAMTEC QTH-060-01-L-D-A (x2))
part A pins: A1 5V, A2 DAC_Out0, A3 -12V, A4 DAC_Out1, A5 +12V, A6 DAC_Out2, A7 Analog_In7, A8 DAC_Out3, A9 Analog_In6, A10 DAC_Out4, A11 Analog_In5, A12 DAC_Out5, A13 Analog_In4, A14 DAC_Out6, A15 Analog_In3, A16 DAC_Out7, A17 Analog_In2, A18 QuadA1+, A19 Analog_In1, A20 QuadA1-, A21 Analog_In0, A22 QuadB1+, A23 Analog_In11, A24 QuadB1-, A25 Analog_In10, A26 Index1+, A27 Analog_In9, A28 Index1-, A29 Analog_In8, A30 QuadA2+, A31 USB_VBUS, A32 QuadA2-, A33 USB_D-, A34 QuadB2+, A35 USB_D+, A36 QuadB2-, A37 Analog_In12, A38 Index2+, A39 Analog_In13, A40 Index2-, A41 Analog_In14, A42 QuadA3+, A43 Analog_In15, A44 QuadA3-, A45 nTRST, A46 QuadB3+, A47 nEMU, A48 QuadB3-, A49 TDI, A50 Index3+, A51 TMS, A52 Index3-, A53 TDO, A54 QuadA4+, A55 TCK, A56 QuadA4-, A57 RS485_H, A58 QuadB4+, A59 RS485_L, A60 QuadB4-, A61 SPI_SClk, A62 Index4+, A63 SPI_MOSI, A64 Index4-, A65 SPI_MISO, A66 VA25, A67 SPI_SS, A68 EtherTx-, A69 SPI_SSEL1, A70 EtherTx+, A71 GP_I/Ospare0, A72 TDO-App_TDI, A73 GP_I/Ospare1, A74 BF-FPGA_TDO, A75 GP_I/Ospare2, A76 FPGA_TMS, A77 GP_I/Ospare3, A78 FPGA_TCK, A79 GP_I/Ospare4, A80 Opto_Out_C0, A81 GP_I/Ospare5, A82 Opto_Out_E0, A83 GP_I/Ospare6, A84 Opto_Out_C1, A85 GP_I/Ospare7, A86 Opto_Out_E1, A87 GP_I/Ospare8, A88 Opto_Out_C2, A89 GP_I/Ospare9, A90 Opto_Out_E2, A91 GP_I/Ospare10, A92 Opto_Out_C3, A93 GP_I/Ospare11, A94 Opto_Out_E3, A95 GP_I/Ospare12, A96 Opto_Out_C4, A97 GP_I/Ospare13, A98 Opto_Out_E4, A99 GP_I/Ospare14, A100 Opto_Out_C5, A101 GP_I/Ospare15, A102 Opto_Out_E5, A103 EtherLED_Act, A104 Opto_Out_C6, A105 EtherLED_FD, A106 Opto_Out_E6, A107 EtherLED100Mbps, A108 Opto_Out_C7, A109 I2C_SDA, A110 Opto_Out_E7, A111 I2C_SCL, A112 Opto_Input_Com6, A113 CANnode0, A114 Opto_Input24, A115 CANnode1, A116 Opto_Input25, A117 CAN_H, A118 Opto_Input26, A119 CAN_L, A120 Opto_Input27, A121 AGND, A122 DGND
part B pins: B1 ~Home4, B2 GP_Out_D2, B3 ~Home3, B4 GP_Out_S2, B5 ~Home2, B6 GP_Out_D3, B7 ~Home1, B8 GP_Out_S3, B9 HomeCom, B10 GP_Out_D4, B11 PosLimt4, B12 GP_Out_S4, B13 PosLimt3, B14 GP_Out_D5, B15 PosLimt2, B16 GP_Out_S5, B17 PosLimt1, B18 GP_Out_D6, B19 PosLimtCom, B20 GP_Out_S6, B21 NegLimt4, B22 GP_Out_D7, B23 NegLimt3, B24 GP_Out_S7, B25 NegLimt2, B26 GP_Out_D8, B27 NegLimt1, B28 GP_Out_S8, B29 NegLimtCom, B30 GP_Out_D9, B31 Step1, B32 GP_Out_S9, B33 Step2, B34 GP_Out_D10, B35 Step3, B36 GP_Out_S10, B37 Step4, B38 GP_Out_D11, B39 Direction1, B40 GP_Out_S11, B41 Direction2, B42 GP_Out_D12, B43 Direction3, B44 GP_Out_S12, B45 Direction4, B46 GP_Out_D13, B47 GP_Out_D0, B48 GP_Out_S13, B49 GP_Out_S0, B50 GP_Out_D14, B51 GP_Out_D1, B52 GP_Out_S14, B53 GP_Out_S1, B54 GP_Out_D15, B55 Opto_Input_Com0, B56 GP_Out_S15, B57 Opto_Input0, B58 GP_Out_D16, B59 Opto_Input1, B60 GP_Out_S16, B61 Opto_Input2, B62 GP_Out_D17, B63 Opto_Input3, B64 GP_Out_S17, B65 EtherRx-, B66 GP_Out_D18, B67 EtherRx+, B68 GP_Out_S18, B69 EtherGND, B70 GP_Out_D19, B71 Opto_Input_Com1, B72 GP_Out_S19, B73 Opto_Input4, B74 GP_Out_D20, B75 Opto_Input5, B76 GP_Out_S20, B77 Opto_Input6, B78 GP_Out_D21, B79 Opto_Input7, B80 GP_Out_S21, B81 Opto_Input_Com2, B82 GP_Out_D22, B83 Opto_Input8, B84 GP_Out_S22, B85 Opto_Input9, B86 GP_Out_D23, B87 Opto_Input10, B88 GP_Out_S23, B89 Opto_Input11, B90 GP_Out_D24, B91 Opto_Input_Com3, B92 GP_Out_S24, B93 Opto_Input12, B94 GP_Out_D25, B95 Opto_Input13, B96 GP_Out_S25, B97 Opto_Input14, B98 GP_Out_D26, B99 Opto_Input15, B100 GP_Out_S26, B101 Opto_Input_Com4, B102 GP_Out_D27, B103 Opto_Input16, B104 GP_Out_S27, B105 Opto_Input17, B106 GP_Out_D28, B107 Opto_Input18, B108 GP_Out_S28, B109 Opto_Input19, B110 GP_Out_D29, B111 Opto_Input_Com5, B112 GP_Out_S29, B113 Opto_Input20, B114 GP_Out_D30, B115 Opto_Input21, B116 GP_Out_S30, B117 Opto_Input22, B118 GP_Out_D31, B119 Opto_Input23, B120 GP_Out_S31, B121 3.3V, B122 DGND

## SuperFin Standoff Kit, 5mm
designator XU?  (mechanical)
LCO p/n: 810-00003

## SuperFin Standoff Kit, 8mm
designator XU?  (mechanical)
LCO p/n: 810-00004

## SuperFin Standoff Kit, 11mm
designator XU?  (mechanical)
LCO p/n: 810-00005

## SuperFin Standoff Kit, 16mm
designator XU?  (mechanical)
LCO p/n: 810-00006

## SuperFin, 2 Axis Step Motor Driver
designator Step Motor Driver- ?  (value not drawn)
part A pins: DAC Out0, DAC Out1, Direction1, Direction2, GP_Out_D6, GP_Out_D7, GP_Out_D8, GP_Out_D9, GP_Out_D10, GP_Out_D11, GP_Out_D12, GP_Out_D13, GP_Out_D14, GP_Out_D15, Opto_Input_8, Opto_Input_9, Opto_Input_10, Opto_Input_11, P1-1 A+, P1-2 A-, P1-3 B+, P1-4 B-, P2-1 A+, P2-2 A-, P2-3 B+, P2-4 B-, STEP1, STEP2
part B pins: DAC_Out4  , DAC_Out5  , Direction3, Direction4, GP_Out_D22, GP_Out_D23, GP_Out_D24, GP_Out_D25, GP_Out_D26, GP_Out_D27, GP_Out_D28, GP_Out_D29, GP_Out_D30, GP_Out_D31, Opto_Input_20, Opto_Input_21, Opto_Input_22, Opto_Input_23, P1-1 A+, P1-2 A-, P1-3 B+, P1-4 B-, P2-1 A+, P2-2 A-, P2-3 B+, P2-4 B-, STEP3, STEP4
part A text: SLOT 1; Resources Used; AXIS 1; AXIS 2
part B text: SLOT 3; Resources Used; AXIS 3; AXIS 4

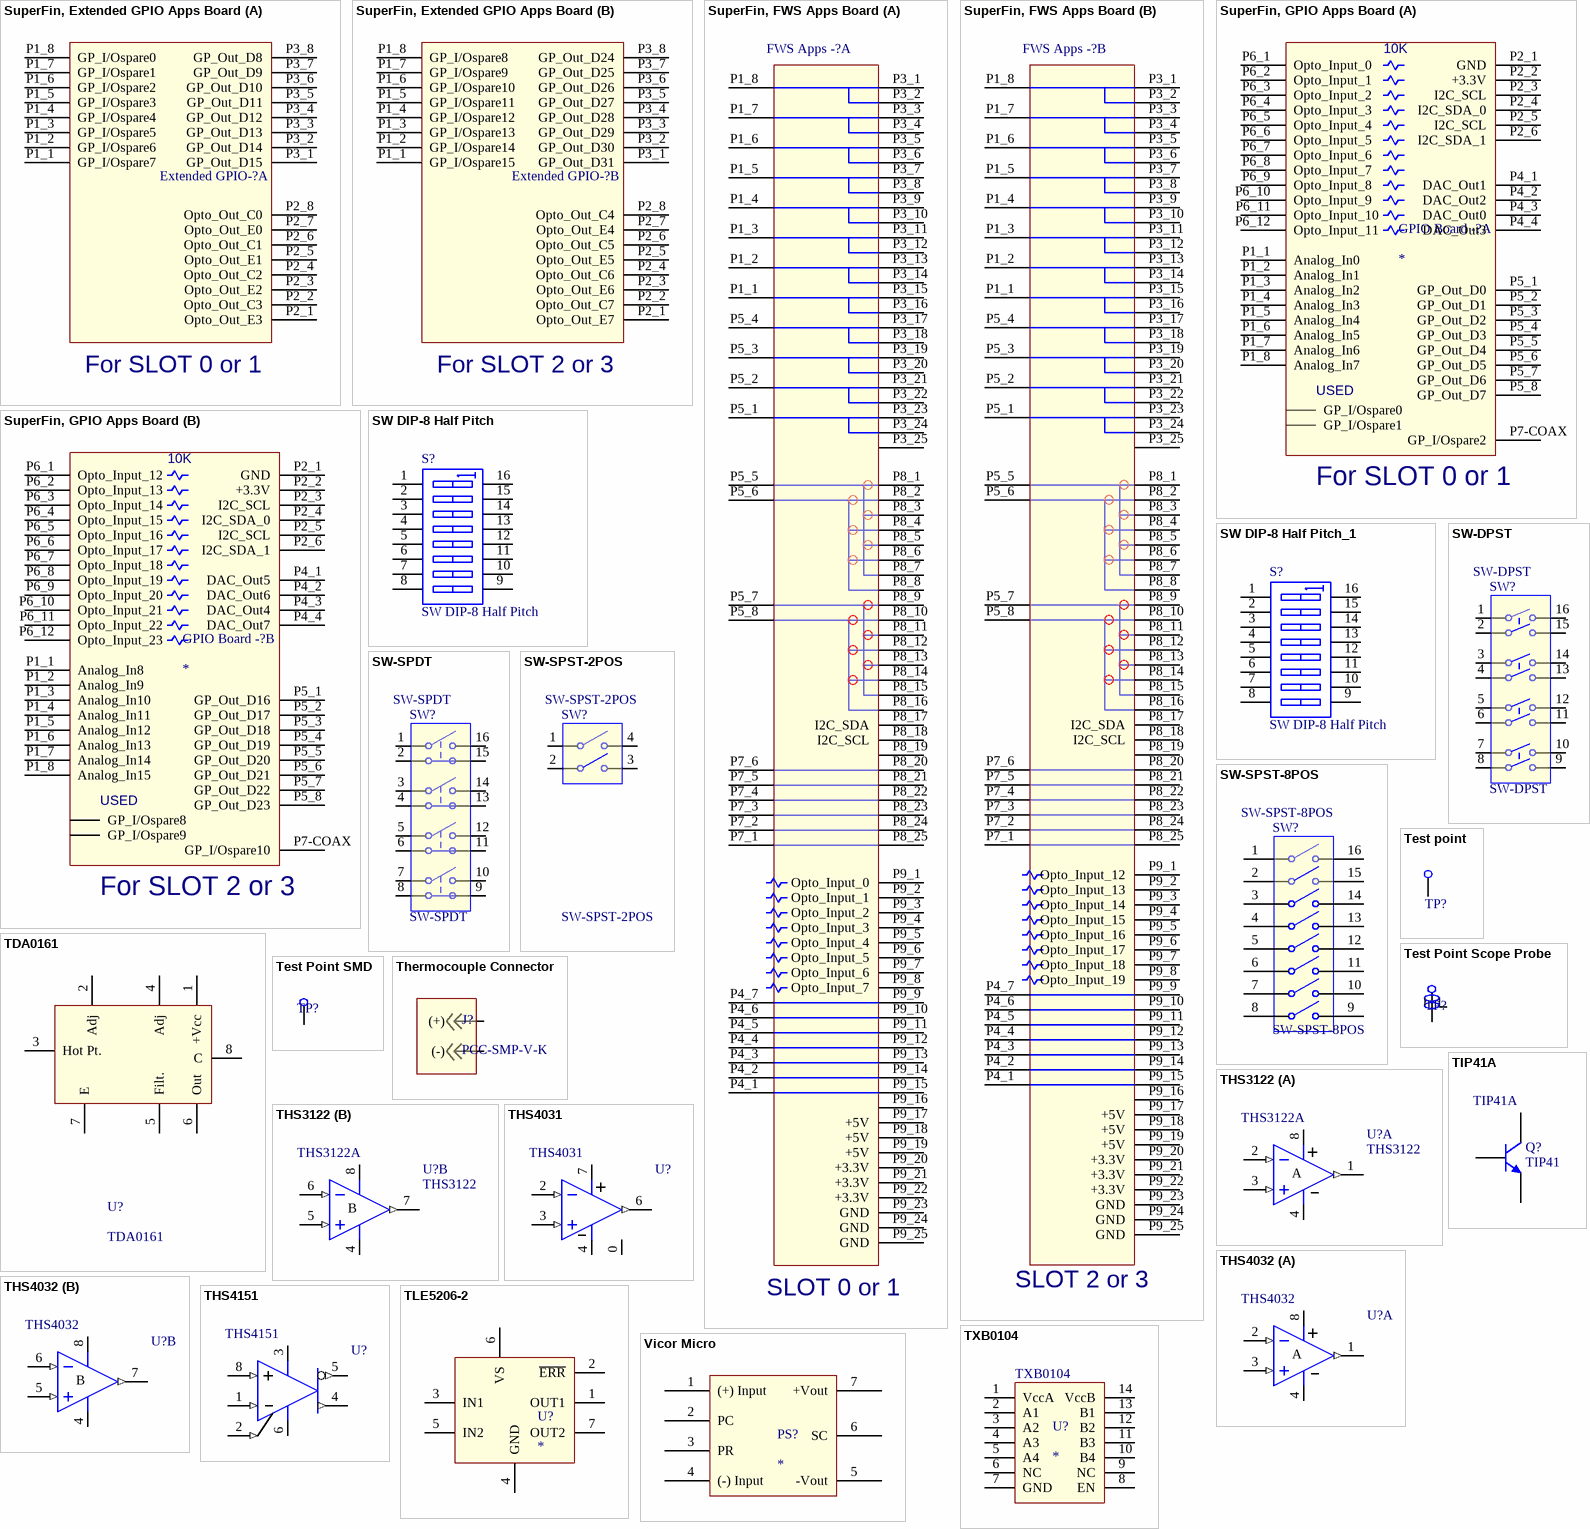
[diagram p11: symbols SuperFin, Extended GPIO Apps Board to Vicor Micro]

## SuperFin, Extended GPIO Apps Board
designator Extended GPIO-?  (value not drawn)
part A pins: P1_1 GP_I/Ospare7, P1_2 GP_I/Ospare6, P1_3 GP_I/Ospare5, P1_4 GP_I/Ospare4, P1_5 GP_I/Ospare3, P1_6 GP_I/Ospare2, P1_7 GP_I/Ospare1, P1_8 GP_I/Ospare0, P2_1 Opto_Out_E3, P2_2 Opto_Out_C3, P2_3 Opto_Out_E2, P2_4 Opto_Out_C2, P2_5 Opto_Out_E1, P2_6 Opto_Out_C1, P2_7 Opto_Out_E0, P2_8 Opto_Out_C0, P3_1 GP_Out_D15, P3_2 GP_Out_D14, P3_3 GP_Out_D13, P3_4 GP_Out_D12, P3_5 GP_Out_D11, P3_6 GP_Out_D10, P3_7 GP_Out_D9, P3_8 GP_Out_D8
part B pins: P1_1 GP_I/Ospare15, P1_2 GP_I/Ospare14, P1_3 GP_I/Ospare13, P1_4 GP_I/Ospare12, P1_5 GP_I/Ospare11, P1_6 GP_I/Ospare10, P1_7 GP_I/Ospare9, P1_8 GP_I/Ospare8, P2_1 Opto_Out_E7, P2_2 Opto_Out_C7, P2_3 Opto_Out_E6, P2_4 Opto_Out_C6, P2_5 Opto_Out_E5, P2_6 Opto_Out_C5, P2_7 Opto_Out_E4, P2_8 Opto_Out_C4, P3_1 GP_Out_D31, P3_2 GP_Out_D30, P3_3 GP_Out_D29, P3_4 GP_Out_D28, P3_5 GP_Out_D27, P3_6 GP_Out_D26, P3_7 GP_Out_D25, P3_8 GP_Out_D24
part A text: For SLOT 0 or 1
part B text: For SLOT 2 or 3

## SuperFin, FWS Apps Board
designator FWS Apps -?  (value not drawn)
part A pins: P1_1, P1_2, P1_3, P1_4, P1_5, P1_6, P1_7, P1_8, P3_1, P3_2, P3_3, P3_4, P3_5, P3_6, P3_7, P3_8, P3_9, P3_10, P3_11, P3_12, P3_13, P3_14, P3_15, P3_16, P3_17, P3_18, P3_19, P3_20, P3_21, P3_22, P3_23, P3_24, P3_25, P4_1, P4_2, P4_3, P4_4, P4_5, P4_6, P4_7, P5_1, P5_2, P5_3, P5_4, P5_5, P5_6, P5_7, P5_8, P7_1, P7_2, P7_3, P7_4, P7_5, P7_6, P8_1, P8_2, P8_3, P8_4, P8_5, P8_6, P8_7, P8_8, P8_9, P8_10, P8_11, P8_12, P8_13, P8_14, P8_15, P8_16, P8_17 I2C_SDA, P8_18 I2C_SCL, P8_19, P8_20, P8_21, P8_22, P8_23, P8_24, P8_25, P9_1 Opto_Input_0, P9_2 Opto_Input_1, P9_3 Opto_Input_2, P9_4 Opto_Input_3, P9_5 Opto_Input_4, P9_6 Opto_Input_5, P9_7 Opto_Input_6, P9_8 Opto_Input_7, P9_9, P9_10, P9_11, P9_12, P9_13, P9_14, P9_15, P9_16, P9_17 +5V, P9_18 +5V, P9_19 +5V, P9_20 +3.3V, P9_21 +3.3V, P9_22 +3.3V, P9_23 GND, P9_24 GND, P9_25 GND
part B pins: P1_1, P1_2, P1_3, P1_4, P1_5, P1_6, P1_7, P1_8, P3_1, P3_2, P3_3, P3_4, P3_5, P3_6, P3_7, P3_8, P3_9, P3_10, P3_11, P3_12, P3_13, P3_14, P3_15, P3_16, P3_17, P3_18, P3_19, P3_20, P3_21, P3_22, P3_23, P3_24, P3_25, P4_1, P4_2, P4_3, P4_4, P4_5, P4_6, P4_7, P5_1, P5_2, P5_3, P5_4, P5_5, P5_6, P5_7, P5_8, P7_1, P7_2, P7_3, P7_4, P7_5, P7_6, P8_1, P8_2, P8_3, P8_4, P8_5, P8_6, P8_7, P8_8, P8_9, P8_10, P8_11, P8_12, P8_13, P8_14, P8_15, P8_16, P8_17 I2C_SDA, P8_18 I2C_SCL, P8_19, P8_20, P8_21, P8_22, P8_23, P8_24, P8_25, P9_1 Opto_Input_12, P9_2 Opto_Input_13, P9_3 Opto_Input_14, P9_4 Opto_Input_15, P9_5 Opto_Input_16, P9_6 Opto_Input_17, P9_7 Opto_Input_18, P9_8 Opto_Input_19, P9_9, P9_10, P9_11, P9_12, P9_13, P9_14, P9_15, P9_16, P9_17 +5V, P9_18 +5V, P9_19 +5V, P9_20 +3.3V, P9_21 +3.3V, P9_22 +3.3V, P9_23 GND, P9_24 GND, P9_25 GND
part A text: SLOT 0 or 1
part B text: SLOT 2 or 3

## SuperFin, GPIO Apps Board
designator GPIO Board -?
part A pins: 0 GP_I/Ospare1, 0 GP_I/Ospare0, P1_1 Analog_In0, P1_2 Analog_In1, P1_3 Analog_In2, P1_4 Analog_In3, P1_5 Analog_In4, P1_6 Analog_In5, P1_7 Analog_In6, P1_8 Analog_In7, P2_1 GND, P2_2 +3.3V, P2_3 I2C_SCL, P2_4 I2C_SDA_0, P2_5 I2C_SCL, P2_6 I2C_SDA_1, P4_1 DAC_Out1, P4_2 DAC_Out2, P4_3 DAC_Out0, P4_4 DAC_Out3, P5_1 GP_Out_D0, P5_2 GP_Out_D1, P5_3 GP_Out_D2, P5_4 GP_Out_D3, P5_5 GP_Out_D4, P5_6 GP_Out_D5, P5_7 GP_Out_D6, P5_8 GP_Out_D7, P6_1 Opto_Input_0, P6_2 Opto_Input_1, P6_3 Opto_Input_2, P6_4 Opto_Input_3, P6_5 Opto_Input_4, P6_6 Opto_Input_5, P6_7 Opto_Input_6, P6_8 Opto_Input_7, P6_9 Opto_Input_8, P6_10 Opto_Input_9, P6_11 Opto_Input_10, P6_12 Opto_Input_11, P7-COAX GP_I/Ospare2
part B pins: 0 GP_I/Ospare9, 0 GP_I/Ospare8, P1_1 Analog_In8, P1_2 Analog_In9, P1_3 Analog_In10, P1_4 Analog_In11, P1_5 Analog_In12, P1_6 Analog_In13, P1_7 Analog_In14, P1_8 Analog_In15, P2_1 GND, P2_2 +3.3V, P2_3 I2C_SCL, P2_4 I2C_SDA_0, P2_5 I2C_SCL, P2_6 I2C_SDA_1, P4_1 DAC_Out5, P4_2 DAC_Out6, P4_3 DAC_Out4, P4_4 DAC_Out7, P5_1 GP_Out_D16, P5_2 GP_Out_D17, P5_3 GP_Out_D18, P5_4 GP_Out_D19, P5_5 GP_Out_D20, P5_6 GP_Out_D21, P5_7 GP_Out_D22, P5_8 GP_Out_D23, P6_1 Opto_Input_12, P6_2 Opto_Input_13, P6_3 Opto_Input_14, P6_4 Opto_Input_15, P6_5 Opto_Input_16, P6_6 Opto_Input_17, P6_7 Opto_Input_18, P6_8 Opto_Input_19, P6_9 Opto_Input_20, P6_10 Opto_Input_21, P6_11 Opto_Input_22, P6_12 Opto_Input_23, P7-COAX GP_I/Ospare10
part A text: 10K; USED; For SLOT 0 or 1
part B text: 10K; USED; For SLOT 2 or 3

## SW DIP-8 Half Pitch
designator S?
DIP Switch, 8 Position, SPST; Manufacturer: GrayHill; Manuf p/n: 97C08ST; LCO p/n: XXXXXX; VALUE: 8 SPST; Vendor: Digi_Key; Vendor Mult.: 1; Vendor p/n: GH1372-ND
simulation model dpsw8 (Spice Subcircuit)
footprint SW DIP 8 pos half pitch (Grayhill 97C08ST, 8 SPST switch, surface mount)
pins: 1 A1, 2 A2, 3 A3, 4 A4, 5 A5, 6 A6, 7 A7, 8 A8, 9 B8, 10 B7, 11 B6, 12 B5, 13 B4, 14 B3, 15 B2, 16 B1

## SW DIP-8 Half Pitch_1
designator S?, comment SW DIP-8 Half Pitch
DIP Switch, 8 Position, SPST; Manufacturer: GrayHill; Manuf p/n: 97C08ST; LCO p/n: XXXXXX; VALUE: 8 SPST; Vendor: Digi_Key; Vendor Mult.: 1; Vendor p/n: GH1372-ND
simulation model dpsw8 (Spice Subcircuit)
footprint SW DIP 8 pos half pitch (Grayhill 97C08ST, 8 SPST switch, surface mount)
pins: 1 A1, 2 A2, 3 A3, 4 A4, 5 A5, 6 A6, 7 A7, 8 A8, 9 B8, 10 B7, 11 B6, 12 B5, 13 B4, 14 B3, 15 B2, 16 B1

## SW-DPST
designator SW?
SW-DIP 4-pos DPST; VALUE: SW-DPST
footprint DIP-16 (DIP; 16 Leads; Row Spacing 7.62 mm; Pitch 2.54 mm)
pins: 1, 2 nc, 3 nc, 4 nc, 5 nc, 6 nc, 7 nc, 8 nc, 9, 10 nc, 11 nc, 12 nc, 13 nc, 14 nc, 15 nc, 16 nc

## SW-SPDT
designator SW?
SW-DIP 4-pos SPDT; VALUE: SW-SPDT
footprint DIP-16 (DIP; 16 Leads; Row Spacing 7.62 mm; Pitch 2.54 mm)
pins: 1, 2 nc, 3 nc, 4 nc, 5 nc, 6 nc, 7 nc, 8 nc, 9, 10 nc, 11 nc, 12 nc, 13 nc, 14 nc, 15 nc, 16 nc

## SW-SPST-2POS
designator SW?
SW-SMD 2-pos SPST; VALUE: SW-SPST-2POS
footprint SMD_DIP J WING 4 PIN
pins: 1, 2 nc, 3 NO, 4 NO

## SW-SPST-8POS
designator SW?
SW-SMD 8-pos SPST; Manufacturer: CTS; Manuf p/n: 219-8MST; Vendor: DIGIKEY; Vendor p/n: CT2198MST-ND; Vendor Mult.: 1; LCO p/n: 185-00007; COST: 0.95; VALUE: SW-SPST-8POS
footprint SMD_DIP GULL WING 16PIN
pins: 1, 2, 3, 4, 5, 6, 7, 8, 9, 10, 11, 12, 13, 14, 15, 16

## TDA0161
designator U?
Inductive Proximity Detector; Manufacturer: STMicroelectronics; Manuf p/n: TDA0161FP; LCO p/n: ???????; Vendor: Digi-Key; Vendor Mult.: 1; Vendor p/n: 497-2159-5-ND; COST: 2.77; VALUE: TDA0161
footprint SO-8_M (8-Pin Small Outline Integrated Circuit 1.27 mm Pitch, IPC Low Density)
pins: 1 +Vcc, 2 Adj, 3 Hot Pt., 4 Adj, 5 Filt., 6 Out, 7 E, 8 C

## Test point
designator TP?  (value not drawn)
Test Point; Manufacturer: Keystone; Manuf p/n: 1249; Vendor: Bisco Ind.; LCO p/n: 125-00013; Vendor p/n: 1249; COST: 0.18; VALUE: Test point
footprint PAD_80D_052H
pins: 1 TP "Test point"

## Test Point Scope Probe
designator TP?  (value not drawn)
Tektronix p/n 131 5031 00; LCO p/n: 125-00085; Vendor: Testpath; Vendor p/n: 117-184; Manufacturer: Tektronix; Manuf p/n: 131 5031 00
footprint Test Point Tektronix probe
pins: 1 TP "Test point", 2 GND

## Test Point SMD
designator TP?  (value not drawn)
SMD loop test point; VALUE: Test Point SMD; LCO p/n: 160-00001
footprint SMD_TEST POINT (Keystone 5015)
pins: 1 TP "Test point"

## Thermocouple Connector
designator J?, comment PCC-SMP-V-K
T/C Conn PCB mount vertical; LCO p/n: 125-00042
footprint THERMOCOUPLE, Horizontal (Omega, PCB mount, horizontal)
footprint THERMOCOUPLE, Vertical (Omega, PCB mount, vertical)
pins: 1 (+), 2 (-)

## THS3122
designator U?  value THS3122A
Video Buffer Current FB
footprint R-8_N (8-Pin Narrow Body Small Outline Integrated Circuit 1.27 mm Pitch, IPC Medium Density)
footprint R-8_L (SOIC, 8-Leads, Body 4.9x3.9mm, Pitch 1.27mm, IPC High Density)
footprint R-8_M (SOIC, 8-Leads, Body 4.9x3.9mm, Pitch 1.27mm, IPC Low Density)
pins on every part: 4 V- (power), 8 V+ (power)
part A pins: 1 OUT (out), 2 IN- (in), 3 IN+ (in)
part B pins: 5 IN+ (in), 6 IN- (in), 7 OUT (out)
part A text: A
part B text: B

## THS4031
designator U?
Low Noise, High Speed Amplifier; VALUE: THS4031
footprint MSOP with PowerPAD (Shrink Small Outline, MSOP; 8 Leads; Body Width 3 mm; Pitch 0.65 mm)
pins: 0 PowerPAD, 1 LOGIC REF hidden, 2 IN- (in), 3 IN+ (in), 4 V- (power), 6 OUT (out), 7 V+ (power), 8 /DISABLE hidden

## THS4032
designator U?
Low noise fast BJT input; VALUE: THS4032
footprint R-8_N (8-Pin Narrow Body Small Outline Integrated Circuit 1.27 mm Pitch, IPC Medium Density)
footprint R-8_L (SOIC, 8-Leads, Body 4.9x3.9mm, Pitch 1.27mm, IPC High Density)
footprint R-8_M (SOIC, 8-Leads, Body 4.9x3.9mm, Pitch 1.27mm, IPC Low Density)
pins on every part: 4 V- (power), 8 V+ (power)
part A pins: 1 OUT (out), 2 IN- (in), 3 IN+ (in)
part B pins: 5 IN+ (in), 6 IN- (in), 7 OUT (out)
part A text: A
part B text: B

## THS4151
designator U?  value THS4151  (hidden comment: *)
DIFF AMP; Manufacturer: TI; Manuf p/n: THS4151CD; Vendor: Mouser; Vendor p/n: 595-THS4151CD; Vendor Mult.: 1; LCO p/n: 150-00064; COST: 10.30
footprint 182h_m (8-Pin Small Outline Integrated Circuit 1.27 mm Pitch, IPC Low Density)
pins: 1 -IN (in), 2 VOCM (in), 3 V+, 4 +OUT (out), 5 -OUT (out), 6 V-, 7 NC hidden, 8 +IN (in)

## TIP41A
designator Q?, comment TIP41  value TIP41A
NPN 60V 6A TO-220; Manufacturer: FAIRCHILD; Vendor: DIGIKEY; Vendor p/n: TIP41AFS-ND; Vendor Mult.: 1; LCO p/n: 195-00014; Manuf p/n: TIP41A; COST: 0.44
footprint TO-220AB (TO, Thru-Hole, Vertical, Heatsink Mounted; 3 In-Line Leads; Pitch 2.54 mm)
pins: 1 B, 2 C, 3 E

## TLE5206-2
designator U?
5A H-Bridge
footprint TO220-7
pins: 1 OUT1, 2 ~{ERR}, 3 IN1, 4 GND, 5 IN2, 6 VS, 7 OUT2

## TXB0104
designator U?  value TXB0104
4-Chan Logic Level Shifter Bi-directional; Manufacturer: TI; Manuf p/n: TXB0104PWR; LCO p/n: XXXXXXXXXXXXXXX; Vendor: DK; Vendor p/n: 296-21929-1-ND
footprint TSSOP14 (Shrink Small Outline; 14 Leads; Body Width 4.4 mm; Pitch 0.65 mm)
pins: 1 VccA, 2 A1, 3 A2, 4 A3, 5 A4, 6 NC, 7 GND, 8 EN, 9 NC, 10 B4, 11 B3, 12 B2, 13 B1, 14 VccB

## Vicor Micro
designator PS?
Vicor Micro
footprint Vicor Micro SurfMate (Vicor Microbrick with SurfMate sockets)
pins: 1 (+) Input, 2 PC, 3 PR, 4 (-) Input, 5 -Vout, 6 SC, 7 +Vout

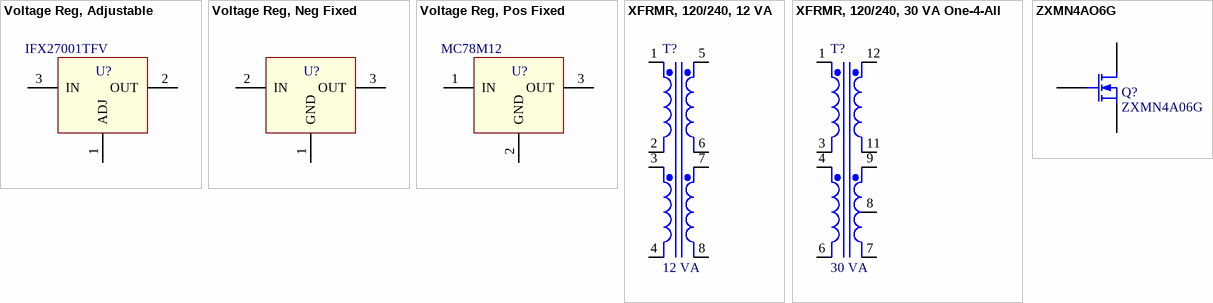
[diagram p12: symbols Voltage Reg, Adjustable to ZXMN4AO6G]

## Voltage Reg, Adjustable
designator U?, comment value IFX27001TFV  (hidden comment: Voltage Reg, Adj)
IFX27001; Manufacturer: Infineon; LCO p/n: 150-00087; Vendor: Digi-Key; Vendor Mult.: 1; Vendor p/n: IFX27001TFVINTR-ND; COST: 0.61; Manuf p/n: IFX27001TFV
footprint TO-252(D-PAK)  PowerPAD (D-PAK, 3-Pads, Body 6.2x6.7mm (max), IPC Medium Density)
pins: 1 ADJ, 2 OUT, 3 IN

## Voltage Reg, Neg Fixed
designator U?  (value not drawn)
79xx; Vendor: Digi-Key; Vendor Mult.: 1; COST: 0.61
footprint TO-252(D-PAK)  PowerPAD (D-PAK, 3-Pads, Body 6.2x6.7mm (max), IPC Medium Density)
pins: 1 GND, 2 IN, 3 OUT

## Voltage Reg, Pos Fixed
designator U?  value MC78M12  (hidden comment: Voltage Reg, Pos Fixed)
MC78M12; Manufacturer: On Semi; Manuf p/n: MC78M12CDTRKG; LCO p/n: 150-00081; Vendor: Digi-Key; Vendor Mult.: 1; Vendor p/n: MC78M12CDTRKGOSCT-ND; COST: 0.61
footprint TO-252(D-PAK)  PowerPAD (D-PAK, 3-Pads, Body 6.2x6.7mm (max), IPC Medium Density)
pins: 1 IN, 2 GND, 3 OUT

## XFRMR, 120/240, 12 VA
designator T?, comment 12 VA
TRIAD FS10-1200; Manufacturer: Ftriad Magnetics; LCO p/n: 192-00001; Vendor: DK; Vendor p/n: 237-1045-ND; Manuf p/n: FS10-1200
simulation model IDEAL4W (Spice Subcircuit)
footprint XFRMR TRIAD FS10-1200 (TRANSFORMER, 12 VA, 5V @ 2.4A)
pins: 1 Pri1+, 2 Pri1-, 3 Pri2+, 4 Pri2-, 5 Sec1+, 6 Sec1-, 7 Sec2+, 8 Sec2-

## XFRMR, 120/240, 30 VA One-4-All
designator T?, comment 30 VA
SIG TRANS 14A-30; Manufacturer: Signal Transformer; Manuf p/n: 14A-30-512 or (515); LCO p/n: 192-00002 or 192-00003
simulation model IDEAL4W (Spice Subcircuit)
footprint XFRMR Signal Trans 14A-30-515 (Siganl Trans One-4-All Triple Output 30VA)
pins: 1 Pri1+, 3 Pri1-, 4 Pri2+, 6 Pri2-, 7 Sec2-, 8 9, 9 Sec2+, 11 Sec1-, 12 Sec1+

## ZXMN4AO6G
designator Q?, comment ZXMN4A06G
N-Chan MOSFET SOT223; Manufacturer: Diodes/Zetex; Manuf p/n: ZXMN4A06GTA; Vendor: Digi-Key; Vendor p/n: ZXMN4A06GCT-ND; Vendor Mult.: 1; LCO p/n: xxxxxx; VALUE: ZXMN4A06GTA; COST: 0.45
footprint SOT223 ALT w/PowerPAD (Like SOT223 except tab conn to 2)
pins: 1 G, 2 D, 3 S